# Altium schematic symbol library Switches.SchLib: 29 symbols
Pins are listed as number, name and electrical type; pins without a type are passive.

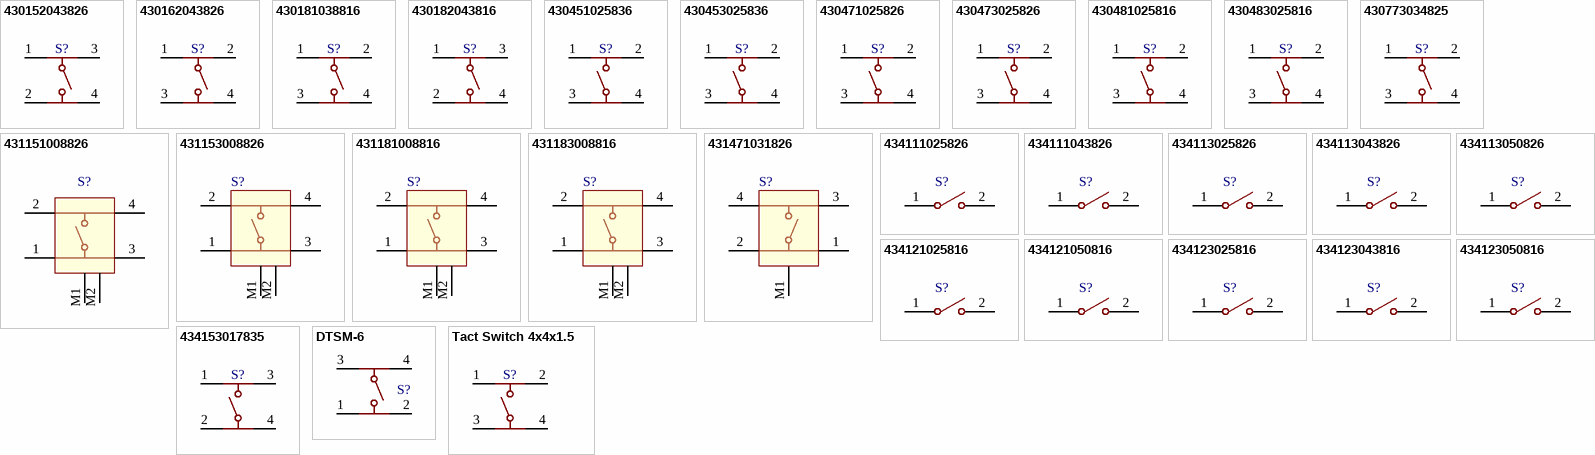
[diagram p0: symbols 430152043826 to Tact Switch 4x4x1.5]

## 430152043826
designator S?
WS-TASV 6x6mm Tact Switch, SMD version; Part Number: 430152043826; Vendor: Wurth Elektronik; Família: Switches; Size: 6x6x4.3 mm
footprint 4301x20438x6_6x6x4.3 (6x6mm Tact Switch, SMD version)
pins: 1, 2, 3, 4

## 430162043826
designator S?
WS-TASV 12x12mm Tact Switch, SMD version; Part Number: 430162043826; Vendor: Wurth Elektronik; Família: Switches; Size: 12x12x4.3 mm
footprint 4301x20438x6_12x12x4.3 (12x12 mm Tact Switch, SMD version)
pins: 1, 2, 3, 4

## 430181038816
designator S?
WS-TASV 4.5x4.5mm Tact Switch, SMD version; Part Number: 430181038816; Vendor: Wurth Elektronik; Família: Switches; Size: 4.5x4.5x3.8 mm
footprint 430181038816_4.5x4.5x3.8 (4.5x4.5mm Tact Switch, SMD version)
pins: 1, 2, 3, 4

## 430182043816
designator S?
WS-TASV 6x6mm Tact Switch, SMD version; Part Number: 430182043816; Vendor: Wurth Elektronik; Família: Switches; Size: 6x6x4.3 mm
footprint 4301x20438x6_6x6x4.3 (6x6mm Tact Switch, SMD version)
pins: 1, 2, 3, 4

## 430451025836
designator S?
WS-TASV 6x6mm washable Tact Switch, SMD version; Part Number: 430451025836; Vendor: Wurth Elektronik; Família: Switches; Size: 6x6x2.5 mm
footprint 4304x10258x6_6x6x2.5 (6x6mm washable Tact Switch, SMD version)
pins: 1, 2, 3, 4

## 430453025836
designator S?
WS-TASV 6x6mm washable Tact Switch, J-Bend SMD version; Part Number: 430453025836; Vendor: Wurth Elektronik; Família: Switches; Size: 6x6x2.5 mm
footprint 4304x30258x6_6x6x2.5 (6x6mm washable Tact Switch, J-Bend SMD version)
pins: 1, 2, 3, 4

## 430471025826
designator S?
WS-TASV 6x6mm washable Tact Switch, SMD version; Part Number: 430471025826; Vendor: Wurth Elektronik; Família: Switches; Size: 6x6x2.5 mm
footprint 4304x10258x6_6x6x2.5 (6x6mm washable Tact Switch, SMD version)
pins: 1, 2, 3, 4

## 430473025826
designator S?
WS-TASV 6x6mm washable Tact Switch, J-Bend SMD version; Part Number: 430473025826; Vendor: Wurth Elektronik; Família: Switches; Size: 6x6x2.5 mm
footprint 4304x30258x6_6x6x2.5 (6x6mm washable Tact Switch, J-Bend SMD version)
pins: 1, 2, 3, 4

## 430481025816
designator S?
WS-TASV 6x6mm washable Tact Switch, SMD version; Part Number: 430481025816; Vendor: Wurth Elektronik; Família: Switches; Size: 6x6x2.5 mm
footprint 4304x10258x6_6x6x2.5 (6x6mm washable Tact Switch, SMD version)
pins: 1, 2, 3, 4

## 430483025816
designator S?
WS-TASV 6x6mm washable Tact Switch, J-Bend SMD version; Part Number: 430483025816; Vendor: Wurth Elektronik; Família: Switches; Size: 6x6x2.5 mm
footprint 4304x30258x6_6x6x2.5 (6x6mm washable Tact Switch, J-Bend SMD version)
pins: 1, 2, 3, 4

## 430773034825
designator S?
WS-TASV 6x6mm J-Hook Hermetic Tact Switch, SMD version; Part Number: 430773034825; Vendor: Wurth Elektronik; Família: Switches; Size: 6x6x3.4 mm
footprint 4307x30348xx_6x6x3.4 (6x6 mm J-Hook SMD Hermetic Tact Switch)
pins: 1, 2, 3, 4

## 431151008826
designator S?
WS-TASV 5x5mm Tact Switch with ground terminal, SMD version; Part Number: 431151008826; Vendor: Wurth Elektronik; Família: Switches; Size: 5x5x0.8 mm
footprint 4311x10088x6_5x5x0.8 (5x5mm Tact Switch with ground terminal, SMD version)
pins: 1, 2, 3, 4, M1 GND, M2 GND

## 431153008826
designator S?
WS-TASV 5x5mm Tact Switch with ground terminal, J-Bend SMD version; Part Number: 431153008826; Vendor: Wurth Elektronik; Família: Switches; Size: 5x5x0.8 mm
footprint 4311x30088x6_5x5x0.8
pins: 1, 2, 3, 4, M1 GND, M2 GND

## 431181008816
designator S?
WS-TASV 5x5mm Tact Switch with ground terminal, SMD version; Part Number: 431181008816; Vendor: Wurth Elektronik; Família: Switches; Size: 5x5x0.8 mm
footprint 4311x10088x6_5x5x0.8 (5x5mm Tact Switch with ground terminal, SMD version)
pins: 1, 2, 3, 4, M1 GND, M2 GND

## 431183008816
designator S?
WS-TASV 5x5mm Tact Switch with ground terminal, J-Bend SMD version; Part Number: 431183008816; Vendor: Wurth Elektronik; Família: Switches; Size: 5x5x0.8 mm
footprint 4311x30088x6_5x5x0.8
pins: 1, 2, 3, 4, M1 GND, M2 GND

## 431471031826
designator S?
WS-TASV 6x6mm washable Tact Switch with ground terminal, SMD version; Part Number: 431471031826; Vendor: Wurth Elektronik; Família: Switches; Size: 6x6x3.1 mm
footprint 4314x10318x6_6x6x3.1
pins: 1, 2, 3, 4, M1 GND

## 434111025826
designator S?
WS-TASV 6.0x3.8mm Tact Switch, SMD version; Part Number: 434111025826; Vendor: Wurth Elektronik; Família: Switches; Size: 6x3.8x2.5 mm
footprint 4341x10258xx_6x3.8x2.5
pins: 1, 2

## 434111043826
designator S?
WS-TASV 6.0x3.5mm Tact Switch, SMD version; Part Number: 434111043826; Vendor: Wurth Elektronik; Família: Switches; Size: 6x3.5x4.3 mm
footprint 4341x10438x6_6x3.5x4.3
pins: 1, 2

## 434113025826
designator S?
WS-TASV 6.0x3.8mm Tact Switch, J-Bend SMD version; Part Number: 434113025826; Vendor: Wurth Elektronik; Família: Switches; Size: 6x3.8x2.5 mm
footprint 4341x30258xx_6x3.8x2.5
pins: 1, 2

## 434113043826
designator S?
WS-TASV 6.0x3.5mm Tact Switch, J-Bend SMD version; Part Number: 434113043826; Vendor: Wurth Elektronik; Família: Switches; Size: 6x3.5x4.3 mm
footprint 4341x30438x6_6x3.5x4.3
pins: 1, 2

## 434113050826
designator S?
WS-TASV 6.0x3.5mm Tact Switch, J-Bend SMD version; Part Number: 434113050826; Vendor: Wurth Elektronik; Família: Switches; Size: 6x3.5x5 mm
footprint 4341x30508x6_6x3.5x5
pins: 1, 2

## 434121025816
designator S?
WS-TASV 6.0x3.8mm Tact Switch, SMD version; Part Number: 434121025816; Vendor: Wurth Elektronik; Família: Switches; Size: 6x3.8x2.5 mm
footprint 4341x10258xx_6x3.8x2.5
pins: 1, 2

## 434121050816
designator S?
WS-TASV 6.0x3.5mm Tact Switch, SMD version; Part Number: 434121050816; Vendor: Wurth Elektronik; Família: Switches; Size: 6x3.5x5 mm
footprint 4341x10508x6_6x3.5x5
pins: 1, 2

## 434123025816
designator S?
WS-TASV 6.0x3.8mm Tact Switch, J-Bend SMD version; Part Number: 434123025816; Vendor: Wurth Elektronik; Família: Switches; Size: 6x3.8x2.5 mm
footprint 4341x30258xx_6x3.8x2.5
pins: 1, 2

## 434123043816
designator S?
WS-TASV 6.0x3.5mm Tact Switch, J-Bend SMD version; Part Number: 434123043816; Vendor: Wurth Elektronik; Família: Switches; Size: 6x3.5x4.3 mm
footprint 4341x30438x6_6x3.5x4.3
pins: 1, 2

## 434123050816
designator S?
WS-TASV 6.0x3.5mm Tact Switch, J-Bend SMD version; Part Number: 434123050816; Vendor: Wurth Elektronik; Família: Switches; Size: 6x3.5x5 mm
footprint 4341x30508x6_6x3.5x5
pins: 1, 2

## 434153017835
designator S?
WS-TASV 3.5x2.9mm Tact Switch, J-Bend SMD version; Part Number: 434153017835; Vendor: Wurth Elektronik; Família: Switches; Size: 3.2x2.9x1.7 mm
footprint 434153017835_3.2x2.9x1.7
pins: 1, 2, 3, 4

## DTSM-6
designator S?
WS-TASV 6x6mm Tact Switch, SMD version; Part Number: DTSM-6; Vendor: Wurth Elektronik; Família: Switches
footprint 4301x20438x6_6x6x4.3_DTSM-6 (6x6mm Tact Switch, SMD version)
pins: 1, 2, 3, 4

## Tact Switch 4x4x1.5
designator S?
4x4mm Tact Switch, SMD version; Família: Switches; Size: 4x4x1.5 mm
footprint 4x4x1.5 (4.5x4.5mm Tact Switch, SMD version)
pins: 1, 2, 3, 4